# Altium integrated library IC.IntLib: 85 symbols
Pins are listed as number, name and electrical type; pins without a type are passive.

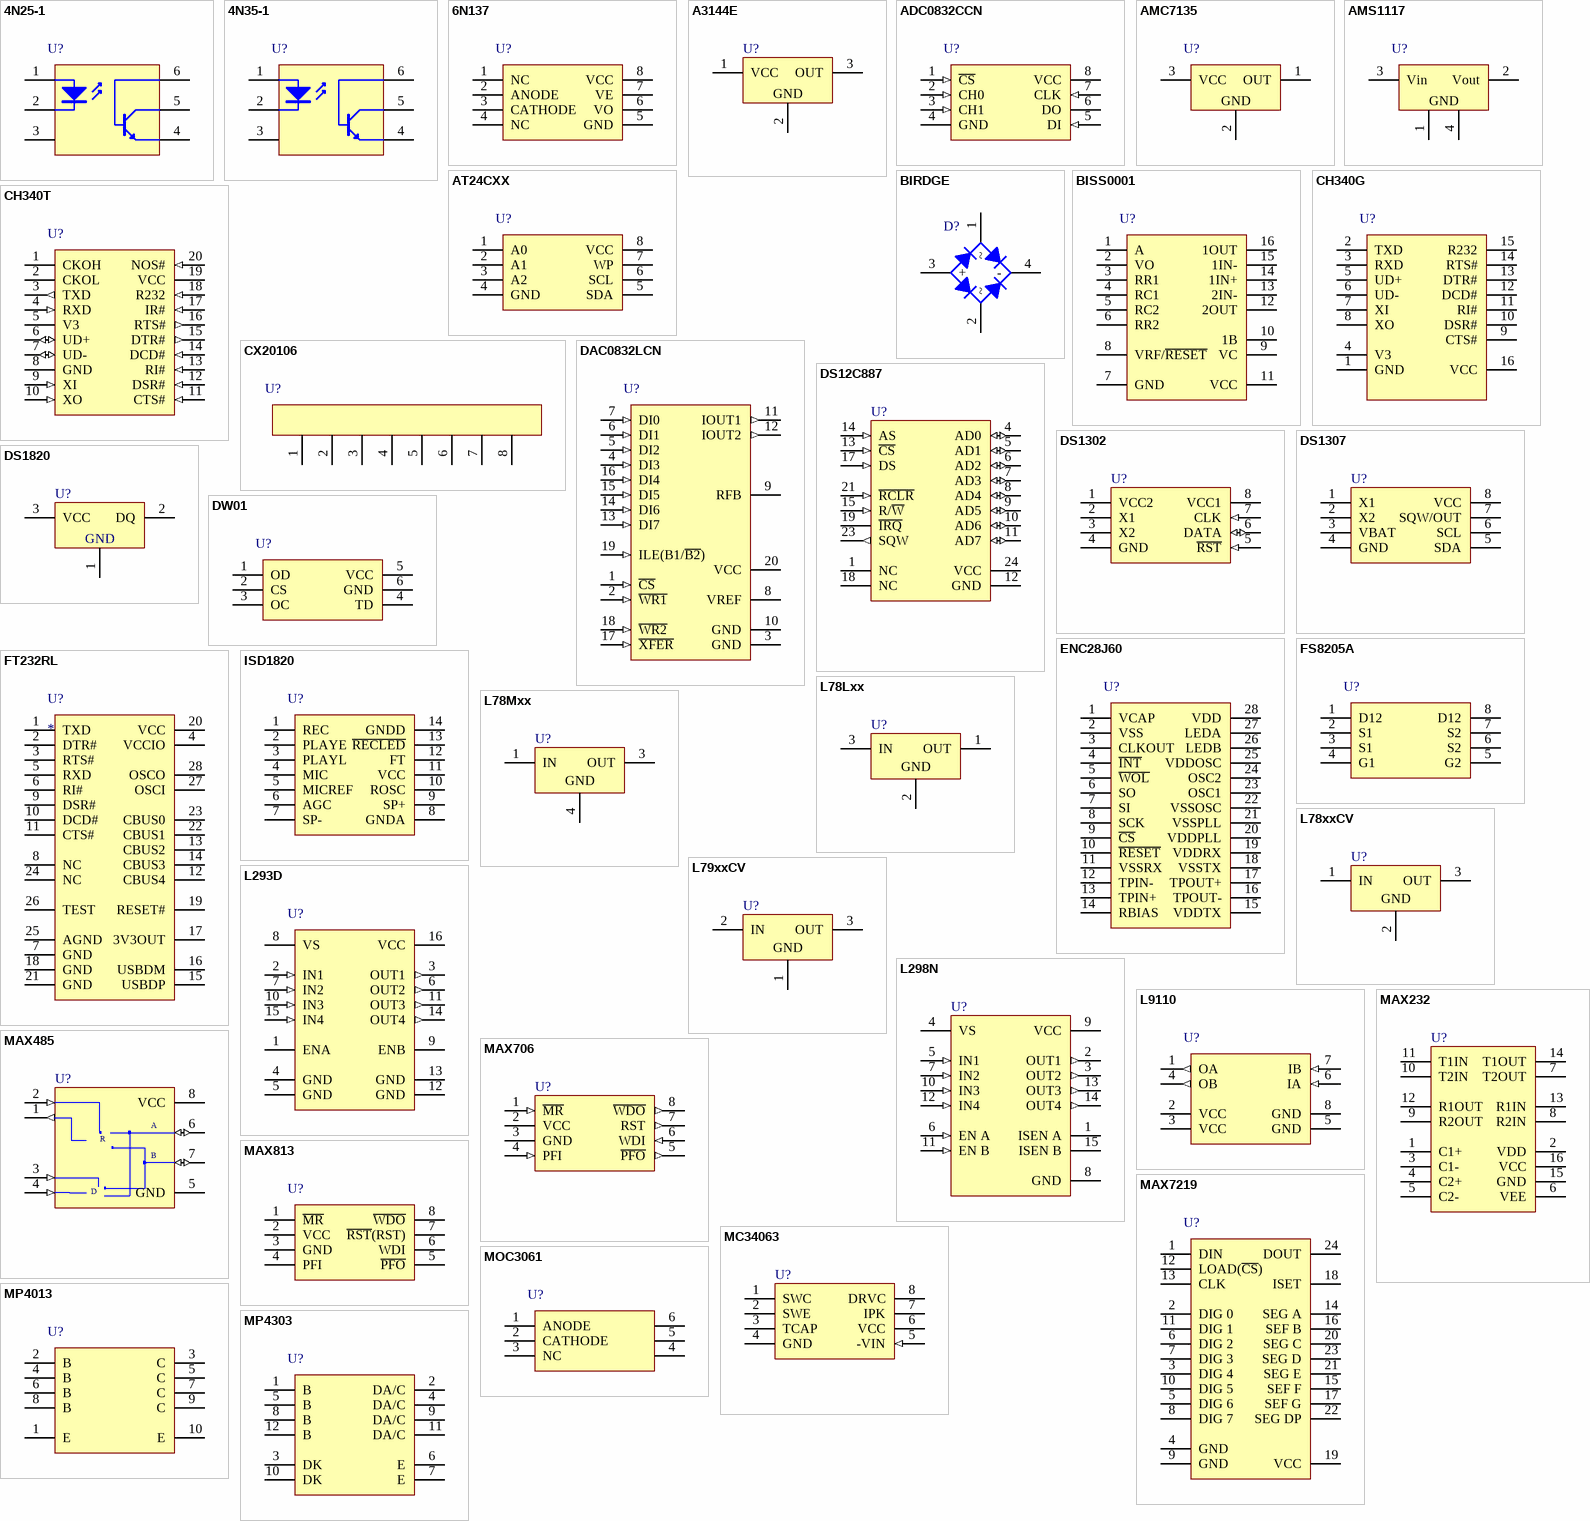
[diagram p0: symbols 4N25-1 to MP4303]

## 4N25-1
designator U?
6针光耦
footprint DIP6
pins: 1 A "Anode", 2 K "Cathode", 3 NC, 4 E "Emitter", 5 C "Collector", 6 B "Base"

## 4N35-1
designator U?
6针光耦
footprint DIP6
pins: 1 A "Anode", 2 K "Cathode", 3 NC, 4 E "Emitter", 5 C "Collector", 6 B "Base"

## 6N137
designator U?
8针光耦
footprint DIP8 (DIP; 8 Leads; Row Spacing 7.62 mm; Pitch 2.54 mm)
pins: 1 NC, 2 ANODE, 3 CATHODE, 4 NC, 5 GND (power), 6 VO, 7 VE, 8 VCC (power)

## A3144E
designator U?
霍尔传感器
footprint TO-92 (TO, Flat Index; 3 In-Line, Axial Leads; Body Dia. 4.5mm; Leads 0.51 x 0.48 mm (max))
footprint TO-92-W (TO, Flat Index; 3 In-Line, Axial Leads; Body Dia. 4.5mm; Leads 0.51 x 0.48 mm (max))
footprint H3 (Connector; Header; 3 Position)
pins: 1 VCC (power), 2 GND (power), 3 OUT

## ADC0832CCN
designator U?
8位串行输入/输出模数转换器; PartNumber: ADC0832CCN; Manufacturer: National Semiconductor; CompType: ADC IC; PackageTopMarking: NSUZXYTT*ADC*0832CCN; Published: 4-Dec-2008; DatasheetVersion: Sep-1992; PackageVersion: revG, May-2006; PackageReference: N08E; Publisher: Altium Limited; PackageDescription: MDIP, .365 x .250 x .130in, 8 Lead, .100in Pitch; RoHS: O; PinCount: 8; DigiKeyPartNumber: ADC0832CCN-ND; Code_JEDEC: MS-001-BA; ComponentLink1Description: ADC0832 Datasheet; ComponentLink1URL: http://www.national.com/ds/AD/ADC0832.pdf; ComponentLink2Description: ADC0832 Web Page; ComponentLink2URL: http://www.national.com/pf/AD/ADC0832.html; ComponentLink3Description: N08E Package Page; ComponentLink3URL: http://www.national.com/packaging/folders/n08e.html
footprint DIP8 (DIP; 8 Leads; Row Spacing 7.62 mm; Pitch 2.54 mm)
pins: 1 ~{CS} (in), 2 CH0 (in), 3 CH1 (in), 4 GND (power), 5 DI (in), 6 DO (hiz), 7 CLK (in), 8 VCC (power)

## AMC7135
designator U?
350毫安先进的电流稳压器
footprint SOT-89 (SOT89, 3-Leads, Body 4.5x2.4mm (max), Pitch 1.50mm, Lead Span 4.1mm, IPC Medium Density)
pins: 1 OUT, 2 GND (power), 3 VCC (power)

## AMS1117
designator U?
低压稳压器-1A
footprint SOT-223 (SOT-223/SC-73; 4 Leads; Body 6.7 x 7.3 mm, inc. leads (LxW max))
pins: 1 GND, 2 Vout, 3 Vin, 4 GND

## AT24CXX
designator U?
串行可擦写存储器
footprint DIP8 (DIP; 8 Leads; Row Spacing 7.62 mm; Pitch 2.54 mm)
footprint SOP8
pins: 1 A0, 2 A1, 3 A2, 4 GND (power), 5 SDA, 6 SCL, 7 WP, 8 VCC (power)

## BIRDGE
designator D?
全波二极管整流桥
footprint BIRDGE-DIP4
footprint BIRDGE-SOP4
footprint BIRDGE-2W10 (Bridge Rectifier; 4 Terminals; Body 9.4 x 9.4 mm (typ); Pitch 5.08 mm)
footprint BIRDGE-KBP307 (Bridge Rectifier; 4 Terminals; Body 9.4 x 9.4 mm (typ); Pitch 5.08 mm)
pins: 1 ~, 2 ~, 3 +, 4 -

## BISS0001
designator U?
高性能的传感（热释电红外）信号处理集成电路
footprint DIP16
pins: 1 A, 2 VO, 3 RR1, 4 RC1, 5 RC2, 6 RR2, 7 GND (power), 8 VRF/~{RESET}, 9 VC, 10 1B, 11 VCC (power), 12 2OUT, 13 2IN-, 14 1IN+, 15 1IN-, 16 1OUT

## CH340G
designator U?
USB 总线转接芯片
footprint SOP16
pins: 1 GND (power), 2 TXD, 3 RXD, 4 V3, 5 UD+, 6 UD-, 7 XI, 8 XO, 9 CTS#, 10 DSR#, 11 RI#, 12 DCD#, 13 DTR#, 14 RTS#, 15 R232, 16 VCC (power)

## CH340T
designator U?
USB 总线转接芯片
footprint SSOP20 (SSOP; 20 Leads; Body Width 5.3 mm; Pitch 0.65 mm)
pins: 1 CKOH, 2 CKOL, 3 TXD (out), 4 RXD (in), 5 V3 (power), 6 UD+ (io), 7 UD- (io), 8 GND (power), 9 XI (in), 10 XO (in), 11 CTS# (in), 12 DSR# (in), 13 RI# (in), 14 DCD# (in), 15 DTR# (out), 16 RTS# (out), 17 IR# (in), 18 R232 (in), 19 VCC (power), 20 NOS# (in)

## CX20106
designator U?
红外/超声波接收
footprint H8 (Connector; Header; 8 Position)
pins: 1, 2, 3, 4, 5, 6, 7, 8

## DAC0832LCN
designator U?
8位微处理器兼容双缓冲数模转换器; PartNumber: DAC0832LCN; Manufacturer: National Semiconductor; CompType: D/A Converter; PackageTopMarking: NSUZXYYTTE#*DAC0832LCN; Published: 4-Dec-2008; DatasheetVersion: Mar-2002; PackageVersion: revG, Nov-1984; PackageReference: N20A; Publisher: Altium Limited; PackageDescription: Molded Dip (N) 20 Lead; RoHS: O; PinCount: 20; DigiKeyPartNumber: DAC0832LCN-ND; Code_JEDEC: MS-001-AD; ComponentLink1Description: DAC0832 Datasheet; ComponentLink1URL: http://www.national.com/ds/DA/DAC0832.pdf; ComponentLink2Description: DAC0832 Web Page; ComponentLink2URL: http://www.national.com/pf/DA/DAC0832.html; ComponentLink3Description: N20A Package Page; ComponentLink3URL: http://www.national.com/packaging/folders/n20a.html
footprint DIP20 (DIP; 20 Leads; Row Spacing 7.62 mm; Pitch 2.54 mm)
pins: 1 ~{CS} (in), 2 ~{WR1} (in), 3 GND (power), 4 DI3 (in), 5 DI2 (in), 6 DI1 (in), 7 DI0 (in), 8 VREF (power), 9 RFB, 10 GND (power), 11 IOUT1 (out), 12 IOUT2 (out), 13 DI7 (in), 14 DI6 (in), 15 DI5 (in), 16 DI4 (in), 17 ~{XFER} (in), 18 ~{WR2} (in), 19 ILE(B1/~{B2}) (in), 20 VCC (power)

## DS12C887
designator U?
实时时钟; Note: Pin numbers 1, 2, 3, 16, 18, 20 and 22 are Not Connected (NC); Published: 13-Oct-2000; LatestRevisionDate: 17-Jul-2002; LatestRevisionNote: Re-released for DXP Platform.; DatasheetVersion: 8-Aug-1995; PackageReference: ENDIP24F; Publisher: Altium Limited; PackageDescription: DIP; 24 Rectangular pins (5 Absent); Row Space 15.24 mm; Pitch 2.54 mm; ComponentLink1Description: Manufacturer Link; ComponentLink1URL: http://www.maxim-ic.com/
footprint PDIP24 (DIP; 24 Leads; Row Spacing 15.24 mm; Pitch 2.54 mm)
pins: 1 NC, 4 AD0 (io), 5 AD1 (io), 6 AD2 (io), 7 AD3 (io), 8 AD4 (io), 9 AD5 (io), 10 AD6 (io), 11 AD7 (io), 12 GND (power), 13 ~{CS} (in), 14 AS (in), 15 R/~{W} (in), 17 DS (in), 18 NC, 19 ~{IRQ} (oc), 21 ~{RCLR} (in), 23 SQW (out), 24 VCC (power)

## DS1302
designator U?
涓流充电的时钟芯片; Published: 13-Oct-2000; LatestRevisionDate: 06-Jun-2005; LatestRevisionNote: Stylized 3D Model Added.; DatasheetVersion: 2-Jul-1999; PackageVersion: 1999; PackageReference: DIP8; Publisher: Altium Limited; PackageDescription: DIP; 8 Leads; Row Spacing 7.62 mm; Pitch 2.54 mm; ComponentLink1Description: Manufacturer Link; ComponentLink1URL: http://www.maxim-ic.com/; ComponentLink2Description: Datasheet; ComponentLink2URL: http://pdfserv.maxim-ic.com/en/ds/DS1302.pdf
footprint DIP8 (DIP; 8 Leads; Row Spacing 7.62 mm; Pitch 2.54 mm)
footprint SOP8
pins: 1 VCC2 (power), 2 X1, 3 X2, 4 GND (power), 5 ~{RST} (in), 6 DATA (io), 7 CLK (in), 8 VCC1 (power)

## DS1307
designator U?
I2C 总线接口时钟芯片
footprint DIP8 (DIP; 8 Leads; Row Spacing 7.62 mm; Pitch 2.54 mm)
footprint SOP8
pins: 1 X1, 2 X2, 3 VBAT, 4 GND (power), 5 SDA, 6 SCL, 7 SQW/OUT, 8 VCC (power)

## DS1820
designator U?
1-Wire 数字温度计; ComponentAvailability: Obsolete; Published: 13-Oct-2000; LatestRevisionDate: 17-Jul-2002; LatestRevisionNote: Re-released for DXP Platform.; DatasheetVersion: 5-Mar-1998; PackageVersion: 1999; PackageReference: PR35; Publisher: Altium Limited; PackageDescription: TO, Flat Index; 3 In-Line, Axial Leads; Body Dia. 4.6mm; Leads 0.56 x 0.51 mm (max); ComponentLink1Description: Manufacturer Link; ComponentLink1URL: http://www.maxim-ic.com/; ComponentLink2Description: Datasheet; ComponentLink2URL: http://pdfserv.maxim-ic.com/en/ds/DS1820-DS1820S.pdf; ComponentLink3Description: Discontinuation Notice; ComponentLink3URL: http://www.maxim-ic.com/qa/pdfs/non-obsolescence-letter.pdf
footprint TO-92 (TO, Flat Index; 3 In-Line, Axial Leads; Body Dia. 4.5mm; Leads 0.51 x 0.48 mm (max))
footprint TO-92-W (TO, Flat Index; 3 In-Line, Axial Leads; Body Dia. 4.5mm; Leads 0.51 x 0.48 mm (max))
footprint H3 (Connector; Header; 3 Position)
pins: 1 GND (power), 2 DQ, 3 VCC (power)

## DW01
designator U?
锂电保护IC
footprint SOT23-6 (SOT-23/SC-74A; 5 Leads; Body 3.1 x 3 mm, inc. leads (LxW max))
pins: 1 OD, 2 CS, 3 OC, 4 TD, 5 VCC (power), 6 GND (power)

## ENC28J60
designator U?
带SPI接口的独立以太网控制器
footprint SSOP28 (SSOP; 28 Leads; Body Width 5.3 mm; Pitch 0.65 mm)
footprint SOP28-W
pins: 1 VCAP, 2 VSS, 3 CLKOUT, 4 ~{INT}, 5 ~{WOL}, 6 SO, 7 SI, 8 SCK, 9 ~{CS}, 10 ~{RESET}, 11 VSSRX, 12 TPIN-, 13 TPIN+, 14 RBIAS, 15 VDDTX, 16 TPOUT-, 17 TPOUT+, 18 VSSTX, 19 VDDRX, 20 VDDPLL, 21 VSSPLL, 22 VSSOSC, 23 OSC1, 24 OSC2, 25 VDDOSC, 26 LEDB, 27 LEDA, 28 VDD

## FS8205A
designator U?
锂电保护
footprint TSSOP8
pins: 1 D12, 2 S1, 3 S1, 4 G1, 5 G2, 6 S2, 7 S2, 8 D12

## FT232RL
designator U?
USB转UART
footprint SSOP28 (SSOP; 28 Leads; Body Width 5.3 mm; Pitch 0.65 mm)
pins: 1 TXD, 2 DTR#, 3 RTS#, 4 VCCIO, 5 RXD, 6 RI#, 7 GND, 8 NC, 9 DSR#, 10 DCD#, 11 CTS#, 12 CBUS4, 13 CBUS2, 14 CBUS3, 15 USBDP, 16 USBDM, 17 3V3OUT, 18 GND, 19 RESET#, 20 VCC, 21 GND, 22 CBUS1, 23 CBUS0, 24 NC, 25 AGND, 26 TEST, 27 OSCI, 28 OSCO

## ISD1820
designator U?
8-20 秒单段语音录放电路
footprint DIP14
pins: 1 REC, 2 PLAYE, 3 PLAYL, 4 MIC, 5 MICREF, 6 AGC, 7 SP-, 8 GNDA (power), 9 SP+, 10 ROSC, 11 VCC (power), 12 FT, 13 ~{RECLED}, 14 GNDD (power)

## L78Lxx
designator U?
正电压稳压器; Published: 24-Aug-2001; LatestRevisionDate: 17-Jul-2002; LatestRevisionNote: Re-released for DXP Platform.; DatasheetVersion: Feb-1999; PackageReference: TO92; Publisher: Altium Limited; PackageDescription: TO, Flat Index; 3 In-Line, Axial Leads; Body Dia. 4.8mm; Leads 0.51 x 0.51 mm (max); ComponentLink1Description: Manufacturer Link; ComponentLink1URL: http://www.st.com/
footprint TO-92
footprint TO-92-W (TO, Flat Index; 3 In-Line, Axial Leads; Body Dia. 4.5mm; Leads 0.51 x 0.48 mm (max))
pins: 1 OUT, 2 GND (power), 3 IN

## L78Mxx
designator U?
正电压稳压器; Published: 24-Aug-2001; LatestRevisionDate: 06-Jun-2005; LatestRevisionNote: PCB pads lengthened.; DatasheetVersion: Apr-1994; PackageVersion: Jun-2004; PackageReference: TO-252; Publisher: Altium Limited; PackageDescription: D-PAK/TO-252-AA; 3 Leads (1 Cropped); Body 10.1 (inc. leads) x 6.6 mm (LxW max); ComponentLink1Description: Manufacturer Link; ComponentLink1URL: http://www.st.com/; ComponentLink2Description: Datasheet; ComponentLink2URL: http://www.st.com/stonline/products/literature/ds/2146/l78m05c.pdf
footprint TO-252 (D-PAK/TO-252-AA; 3 Leads (1 Cropped); Body 10.1 (inc. leads) x 6.6 mm (LxW max))
pins: 1 IN, 3 OUT, 4 GND (power)

## L78xxCV
designator U?
正电压稳压器; Note: Tab is connected to pin 3 (GND).; Published: 24-Aug-2001; LatestRevisionDate: 17-Jul-2002; LatestRevisionNote: Re-released for DXP Platform.; DatasheetVersion: Dec-1998; PackageVersion: Jun-1998; PackageReference: TO220ABN; Publisher: Altium Limited; PackageDescription: TO, Thru-Hole, Vertical, Heatsink Mounted; 3 In-Line Leads; Pitch 2.54 mm; Pin sequence 1, 3, 2; ComponentLink1Description: Manufacturer Link; ComponentLink1URL: http://www.st.com/
footprint TO-220 (TO, Thru-Hole, Vertical, Heatsink Mounted; 3 In-Line Leads; Pitch 2.54 mm)
pins: 1 IN, 2 GND (power), 3 OUT

## L79xxCV
designator U?
负电压稳压器; Note: Tab is connected to pin 3 (IN).; Published: 24-Aug-2001; LatestRevisionDate: 17-Jul-2002; LatestRevisionNote: Re-released for DXP Platform.; DatasheetVersion: Apr-1997; PackageReference: TO220V; Publisher: Altium Limited; PackageDescription: TO, Thru-Hole, Vertical, Heatsink Mounted; 3 In-Line Leads; Pitch 2.54 mm; Pin sequence 1, 3, 2; ComponentLink1Description: Manufacturer Link; ComponentLink1URL: http://www.st.com/; ComponentLink2Description: Datasheet; ComponentLink2URL: http://www.st.com/stonline/products/literature/ds/2149/l7905c.pdf
footprint TO-220 (TO, Thru-Hole, Vertical, Heatsink Mounted; 3 In-Line Leads; Pitch 2.54 mm)
pins: 1 GND (power), 2 IN, 3 OUT

## L293D
designator U?
推拉四通道驱动器，带有二极管
footprint DIP16
pins: 1 ENA, 2 IN1 (in), 3 OUT1 (out), 4 GND (power), 5 GND (power), 6 OUT2 (out), 7 IN2 (in), 8 VS (power), 9 ENB, 10 IN3 (in), 11 OUT3 (out), 12 GND (power), 13 GND (power), 14 OUT4 (out), 15 IN4 (in), 16 VCC (power)

## L298N
designator U?
双全桥驱动器; Published: 8-Jun-2000; LatestRevisionDate: 14-May-2007; LatestRevisionNote: Mapped to vertical PCB.; DatasheetVersion: Jul-1999; PackageReference: Multiwatt15V; Publisher: Altium Limited; PackageDescription: TO, Thru-Hole, Vertical, Heatsink Mounted; 15 Bent Staggered Leads; Pitch 1.27 mm; ComponentLink1Description: Manufacturer Link; ComponentLink1URL: http://www.st.com/; ComponentLink2Description: Datasheet; ComponentLink2URL: http://www.st.com/stonline/products/literature/ds/1773/l298.pdf
footprint KV015 (TO, Thru-Hole, Vertical, Heatsink Mounted; 15 Bent Staggered Leads; Pitch 1.27 mm)
pins: 1 ISEN A, 2 OUT1 (out), 3 OUT2 (out), 4 VS (power), 5 IN1 (in), 6 EN A (in), 7 IN2 (in), 8 GND (power), 9 VCC (power), 10 IN3 (in), 11 EN B (in), 12 IN4 (in), 13 OUT3 (out), 14 OUT4 (out), 15 ISEN B

## L9110
designator U?
马达控制驱动芯片
footprint DIP8 (DIP; 8 Leads; Row Spacing 7.62 mm; Pitch 2.54 mm)
pins: 1 OA (out), 2 VCC (power), 3 VCC (power), 4 OB (out), 5 GND (power), 6 IA (in), 7 IB (in), 8 GND (power)

## MAX232
designator U?
+5供电的RS-232驱动器/接收器; Published: 16-Jan-2001; LatestRevisionDate: 06-Jun-2005; LatestRevisionNote: Stylized 3D Model Added.; DatasheetVersion: Apr-1992; PackageVersion: 1997; PackageReference: PE16A; Publisher: Altium Limited; PackageDescription: DIP; 16 Leads; Row Spacing 7.62 mm; Pitch 2.54 mm; Code_JEDEC: MS-001-BB; ComponentLink1Description: Manufacturer Link; ComponentLink1URL: http://www.maxim-ic.com/; ComponentLink2Description: Datasheet; ComponentLink2URL: http://pdfserv.maxim-ic.com/en/ds/MAX220-MAX249.pdf
footprint DIP16
footprint SOP16
pins: 1 C1+, 2 VDD (power), 3 C1-, 4 C2+, 5 C2-, 6 VEE (power), 7 T2OUT, 8 R2IN, 9 R2OUT, 10 T2IN, 11 T1IN, 12 R1OUT, 13 R1IN, 14 T1OUT, 15 GND (power), 16 VCC (power)

## MAX485
designator U?
低功耗RS-485/RS-422收发器; Published: 16-Jan-2001; LatestRevisionDate: 06-Jun-2005; LatestRevisionNote: Stylized 3D Model Added.; DatasheetVersion: Feb-1996; PackageVersion: RevB, 21-0043; PackageReference: PA8; Publisher: Altium Limited; PackageDescription: DIP; 8 Leads; Row Spacing 7.62 mm; Pitch 2.54 mm; Code_JEDEC: MS-001-AB; ComponentLink1Description: Manufacturer Link; ComponentLink1URL: http://www.maxim-ic.com/; ComponentLink2Description: Datasheet; ComponentLink2URL: http://pdfserv.maxim-ic.com/en/ds/MAX1487-MAX491.pdf
footprint DIP8 (DIP; 8 Leads; Row Spacing 7.62 mm; Pitch 2.54 mm)
footprint SOP8
pins: 1 RO (out), 2 ~{RE} (in), 3 DE (in), 4 DI (in), 5 GND (power), 6 A (io), 7 B (io), 8 VCC (power)
text: R; D

## MAX706
designator U?
低成本 +3V 电压监控电路; Published: 16-Jan-2001; LatestRevisionDate: 06-Jun-2005; LatestRevisionNote: Stylized 3D Model Added.; DatasheetVersion: Sep-1995; PackageVersion: RevB, 21-0043; PackageReference: PA8; Publisher: Altium Limited; PackageDescription: DIP; 8 Leads; Row Spacing 7.62 mm; Pitch 2.54 mm; Code_JEDEC: MS-001-AB; ComponentLink1Description: Manufacturer Link; ComponentLink1URL: http://www.maxim-ic.com/; ComponentLink2Description: Datasheet; ComponentLink2URL: http://pdfserv.maxim-ic.com/en/ds/MAX706P-MAX708T.pdf
footprint DIP8 (DIP; 8 Leads; Row Spacing 7.62 mm; Pitch 2.54 mm)
pins: 1 ~{MR} (in), 2 VCC (power), 3 GND (power), 4 PFI (in), 5 ~{PFO} (out), 6 WDI (in), 7 RST (out), 8 ~{WDO} (out)

## MAX813
designator U?
看门狗
footprint DIP8 (DIP; 8 Leads; Row Spacing 7.62 mm; Pitch 2.54 mm)
pins: 1 ~{MR}, 2 VCC (power), 3 GND (power), 4 PFI, 5 ~{PFO}, 6 WDI, 7 ~{RST}(RST), 8 ~{WDO}

## MAX7219
designator U?
串行接口、8位、LED显示驱动器
footprint DIP24
pins: 1 DIN, 2 DIG 0, 3 DIG 4, 4 GND (power), 5 DIG 6, 6 DIG 2, 7 DIG 3, 8 DIG 7, 9 GND (power), 10 DIG 5, 11 DIG 1, 12 LOAD(~{CS}), 13 CLK, 14 SEG A, 15 SEF F, 16 SEF B, 17 SEF G, 18 ISET, 19 VCC (power), 20 SEG C, 21 SEG E, 22 SEG DP, 23 SEG D, 24 DOUT

## MC34063
designator U?
DO-DO 转换控制电路; Published: 17-Jul-2002; LatestRevisionDate: 06-Jun-2005; LatestRevisionNote: Stylized 3D Model Added.; DatasheetVersion: 1988; PackageReference: 626-05; Publisher: Altium Limited; PackageDescription: DIP; 8 Leads; Row Spacing 7.62 mm; Pitch 2.54 mm; ComponentLink1Description: Manufacturer Link; ComponentLink1URL: http://www.onsemi.com/site/products/taxonomy/0,4438,503,00.html; ComponentLink2Description: Datasheet; ComponentLink2URL: http://www.onsemi.com/pub/Collateral/MC34063A-D.PDF
footprint DIP8 (DIP; 8 Leads; Row Spacing 7.62 mm; Pitch 2.54 mm)
pins: 1 SWC (oc), 2 SWE (oe), 3 TCAP, 4 GND (power), 5 -VIN (in), 6 VCC (power), 7 IPK, 8 DRVC (oc)

## MOC3061
designator U?
6针光耦
footprint DIP8 (DIP; 8 Leads; Row Spacing 7.62 mm; Pitch 2.54 mm)
pins: 1 ANODE, 2 CATHODE, 3 NC, 4, 5, 6

## MP4013
designator U?
脉冲马达驱动，感性负载开关
footprint MP4013 (Connector; Header; 10 Position)
pins: 1 E, 2 B, 3 C, 4 B, 5 C, 6 B, 7 C, 8 B, 9 C, 10 E

## MP4303
designator U?
脉冲马达驱动，感性负载开关
footprint MP4303 (Connector; Header; 12 Position)
pins: 1 B, 2 DA/C, 3 DK, 4 DA/C, 5 B, 6 E, 7 E, 8 B, 9 DA/C, 10 DK, 11 DA/C, 12 B

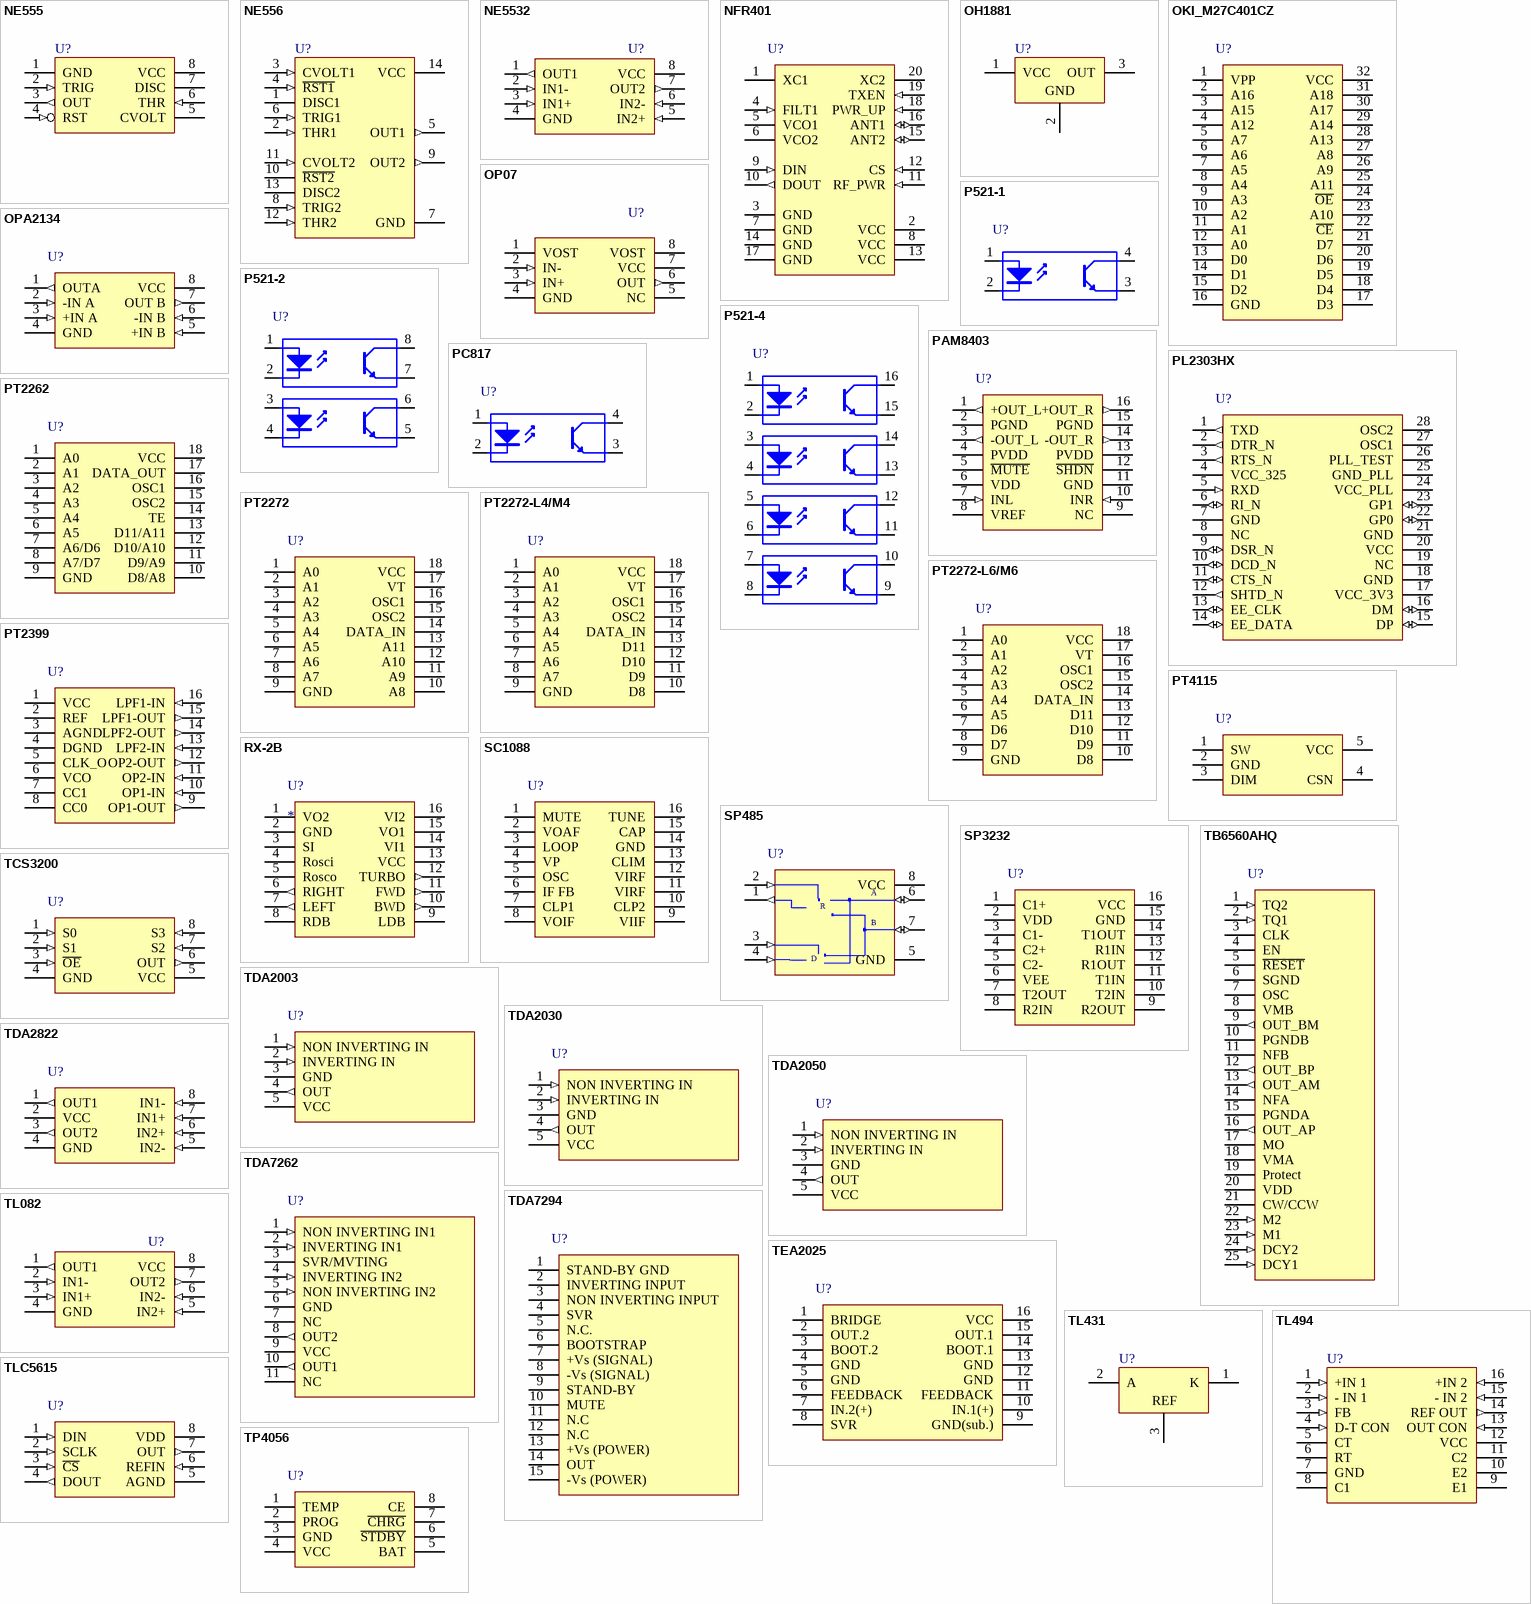
[diagram p1: symbols NE555 to TP4056]

## NE555
designator U?
通用单定时器; Published: 24-Aug-2001; LatestRevisionDate: 06-Jun-2005; LatestRevisionNote: Stylized 3D Model Added.; DatasheetVersion: Jul-1998; PackageReference: DIP8; Publisher: Altium Limited; PackageDescription: DIP; 8 Leads; Row Spacing 7.62 mm; Pitch 2.54 mm; Code_JEDEC: MO-001-AN; ComponentLink1Description: Manufacturer Link; ComponentLink1URL: http://www.st.com/; ComponentLink2Description: Datasheet; ComponentLink2URL: http://www.st.com/stonline/products/literature/ds/2182/ne555.pdf
footprint DIP8 (DIP; 8 Leads; Row Spacing 7.62 mm; Pitch 2.54 mm)
footprint SOP8
pins: 1 GND (power), 2 TRIG (in), 3 OUT (out), 4 RST (in), 5 CVOLT, 6 THR (in), 7 DISC (oc), 8 VCC (power)

## NE556
designator U?
通用双定时器; Published: 24-Aug-2001; LatestRevisionDate: 06-Jun-2005; LatestRevisionNote: Stylized 3D Model Added.; DatasheetVersion: Jul-1998; PackageVersion: Jan-1997; PackageReference: DIP14; Publisher: Altium Limited; PackageDescription: DIP; 14 Leads; Row Spacing 7.62 mm; Pitch 2.54 mm; ComponentLink1Description: Manufacturer Link; ComponentLink1URL: http://www.st.com/; ComponentLink2Description: Datasheet; ComponentLink2URL: http://www.st.com/stonline/products/literature/ds/2183/ne556.pdf
footprint DIP14
pins: 1 DISC1 (oc), 2 THR1 (in), 3 CVOLT1 (in), 4 ~{RST1} (in), 5 OUT1 (out), 6 TRIG1 (in), 7 GND (power), 8 TRIG2 (in), 9 OUT2 (out), 10 ~{RST2}, 11 CVOLT2 (in), 12 THR2 (in), 13 DISC2 (oc), 14 VCC (power)

## NE5532
designator U?
双低噪声运算放大器; Published: 15-Apr-2002; LatestRevisionDate: 04-Mar-2005; LatestRevisionNote: Stylized 3D Model Added.; DatasheetVersion: May-1988; PackageVersion: Jun-1999; PackageReference: P008; Publisher: Altium Limited; PackageDescription: DIP; 8 Leads; Row Spacing 7.62 mm; Pitch 2.54 mm; Code_JEDEC: MO-001-AN; ComponentLink1Description: Manufacturer Link; ComponentLink1URL: http://www.ti.com/; ComponentLink2Description: Datasheet; ComponentLink2URL: http://www-s.ti.com/sc/ds/ne5532a.pdf
footprint DIP8 (DIP; 8 Leads; Row Spacing 7.62 mm; Pitch 2.54 mm)
pins: 1 OUT1 (out), 2 IN1- (in), 3 IN1+ (in), 4 GND (power), 5 IN2+ (in), 6 IN2- (in), 7 OUT2 (out), 8 VCC (power)

## NFR401
designator U?
433MHz单片UHF无线接收
footprint SSOP20 (SSOP; 20 Leads; Body Width 5.3 mm; Pitch 0.65 mm)
pins: 1 XC1, 2 VCC (power), 3 GND (power), 4 FILT1 (in), 5 VCO1, 6 VCO2, 7 GND (power), 8 VCC (power), 9 DIN (in), 10 DOUT (out), 11 RF_PWR (in), 12 CS (in), 13 VCC (power), 14 GND (power), 15 ANT2 (io), 16 ANT1 (io), 17 GND (power), 18 PWR_UP (in), 19 TXEN (in), 20 XC2

## OH1881
designator U?
霍尔传感器
footprint TO-92 (TO, Flat Index; 3 In-Line, Axial Leads; Body Dia. 4.5mm; Leads 0.51 x 0.48 mm (max))
footprint TO-92-W (TO, Flat Index; 3 In-Line, Axial Leads; Body Dia. 4.5mm; Leads 0.51 x 0.48 mm (max))
footprint H3 (Connector; Header; 3 Position)
pins: 1 VCC (power), 2 GND (power), 3 OUT

## OKI_M27C401CZ
designator U?
512KB可编程只读存储器
footprint PDIP32 (DIP, Plastic; 32 Leads; Row Spacing 15.24 mm; Pitch 2.54 mm)
pins: 1 VPP, 2 A16, 3 A15, 4 A12, 5 A7, 6 A6, 7 A5, 8 A4, 9 A3, 10 A2, 11 A1, 12 A0, 13 D0, 14 D1, 15 D2, 16 GND (power), 17 D3, 18 D4, 19 D5, 20 D6, 21 D7, 22 ~{CE}, 23 A10, 24 ~{OE}, 25 A11, 26 A9, 27 A8, 28 A13, 29 A14, 30 A17, 31 A18, 32 VCC (power)

## OP07
designator U?
超低补偿电压运算放大器; Note: Pin 5 is not connected.; Published: 8-Jun-2000; LatestRevisionDate: 04-Mar-2005; LatestRevisionNote: Stylized 3D Model Added.; DatasheetVersion: 1992; PackageReference: N-8_A; Publisher: Altium Limited; PackageDescription: DIP; 8 Leads; Row Spacing 7.62 mm; Pitch 2.54 mm; Code_JEDEC: MO-001-AN; ComponentLink1Description: Manufacturer Link; ComponentLink1URL: http://www.analog.com/en/prod/0,,759_786_OP07%2C00.html; ComponentLink2Description: Datasheet; ComponentLink2URL: http://www.analog.com/UploadedFiles/Data_Sheets/39161232478959OP07_c.pdf
footprint DIP8 (DIP; 8 Leads; Row Spacing 7.62 mm; Pitch 2.54 mm)
pins: 1 VOST, 2 IN- (in), 3 IN+ (in), 4 GND (power), 5 NC, 6 OUT (out), 7 VCC (power), 8 VOST

## OPA2134
designator U?
高性能音频运算放大器
footprint DIP8 (DIP; 8 Leads; Row Spacing 7.62 mm; Pitch 2.54 mm)
pins: 1 OUTA (out), 2 -IN A (in), 3 +IN A (in), 4 GND (power), 5 +IN B (in), 6 -IN B (in), 7 OUT B (out), 8 VCC (power)

## P521-1
designator U?
4针光耦
footprint DIP4
pins: 1 A "Anode", 2 K "Cathode", 3 E "Emitter", 4 C "Collector"

## P521-2
designator U?
8针光耦
footprint DIP8 (DIP; 8 Leads; Row Spacing 7.62 mm; Pitch 2.54 mm)
pins: 1 A "Anode", 2 K "Cathode", 3 A "Anode", 4 K "Cathode", 5 E "Emitter", 6 C "Collector", 7 E "Emitter", 8 C "Collector"

## P521-4
designator U?
16针光耦
footprint DIP16
pins: 1 A "Anode", 2 K "Cathode", 3 A "Anode", 4 K "Cathode", 5 A "Anode", 6 K "Cathode", 7 A "Anode", 8 K "Cathode", 9 E "Emitter", 10 C "Collector", 11 E "Emitter", 12 C "Collector", 13 E "Emitter", 14 C "Collector", 15 E "Emitter", 16 C "Collector"

## PAM8403
designator U?
3W*2无滤波立体声D级音频放大器
footprint SOP16
pins: 1 +OUT_L (out), 2 PGND (power), 3 -OUT_L (out), 4 PVDD (power), 5 ~{MUTE}, 6 VDD (power), 7 INL (in), 8 VREF, 9 NC, 10 INR (in), 11 GND (power), 12 ~{SHDN}, 13 PVDD (power), 14 -OUT_R (out), 15 PGND (power), 16 +OUT_R (out)

## PC817
designator U?
4针光耦
footprint DIP4
footprint PC817
pins: 1 A "Anode", 2 K "Cathode", 3 E "Emitter", 4 C "Collector"

## PL2303HX
designator U?
USB - 串行控制器
footprint SSOP28 (SSOP; 28 Leads; Body Width 5.3 mm; Pitch 0.65 mm)
pins: 1 TXD (out), 2 DTR_N (out), 3 RTS_N (out), 4 VCC_325 (power), 5 RXD (in), 6 RI_N (io), 7 GND (power), 8 NC, 9 DSR_N (io), 10 DCD_N (io), 11 CTS_N (io), 12 SHTD_N (out), 13 EE_CLK (io), 14 EE_DATA (io), 15 DP (io), 16 DM (io), 17 VCC_3V3 (power), 18 GND (power), 19 NC, 20 VCC (power), 21 GND (power), 22 GP0 (io), 23 GP1 (io), 24 VCC_PLL, 25 GND_PLL, 26 PLL_TEST, 27 OSC1, 28 OSC2

## PT2262
designator U?
CMOS低功耗通用编码器
footprint DIP18
pins: 1 A0, 2 A1, 3 A2, 4 A3, 5 A4, 6 A5, 7 A6/D6, 8 A7/D7, 9 GND (power), 10 D8/A8, 11 D9/A9, 12 D10/A10, 13 D11/A11, 14 TE, 15 OSC2, 16 OSC1, 17 DATA_OUT, 18 VCC (power)

## PT2272
designator U?
CMOS低功耗通用解码器
footprint DIP18
pins: 1 A0, 2 A1, 3 A2, 4 A3, 5 A4, 6 A5, 7 A6, 8 A7, 9 GND (power), 10 A8, 11 A9, 12 A10, 13 A11, 14 DATA_IN, 15 OSC2, 16 OSC1, 17 VT, 18 VCC (power)

## PT2272-L4/M4
designator U?
CMOS低功耗通用解码器
footprint DIP18
pins: 1 A0, 2 A1, 3 A2, 4 A3, 5 A4, 6 A5, 7 A6, 8 A7, 9 GND (power), 10 D8, 11 D9, 12 D10, 13 D11, 14 DATA_IN, 15 OSC2, 16 OSC1, 17 VT, 18 VCC (power)

## PT2272-L6/M6
designator U?
CMOS低功耗通用解码器
footprint DIP18
pins: 1 A0, 2 A1, 3 A2, 4 A3, 5 A4, 6 A5, 7 D6, 8 D7, 9 GND (power), 10 D8, 11 D9, 12 D10, 13 D11, 14 DATA_IN, 15 OSC2, 16 OSC1, 17 VT, 18 VCC (power)

## PT2399
designator U?
音频数字混响电路
footprint DIP16
pins: 1 VCC (power), 2 REF, 3 AGND (power), 4 DGND (power), 5 CLK_O, 6 VCO, 7 CC1, 8 CC0, 9 OP1-OUT (out), 10 OP1-IN (in), 11 OP2-IN (in), 12 OP2-OUT (out), 13 LPF2-IN (in), 14 LPF2-OUT (out), 15 LPF1-OUT (out), 16 LPF1-IN (in)

## PT4115
designator U?
15W DC-DC转换
footprint SOP89-5 (SOT23, 5-Leads, Body 4.6x4.3mm (max), Pitch 1.50mm, IPC Medium Density)
pins: 1 SW, 2 GND (power), 3 DIM, 4 CSN, 5 VCC (power)

## RX-2B
designator U?
遥控玩具接收(对应TX-2B)
footprint DIP16
pins: 1 VO2, 2 GND (power), 3 SI, 4 Rosci, 5 Rosco, 6 RIGHT (out), 7 LEFT (out), 8 RDB, 9 LDB, 10 BWD (out), 11 FWD (out), 12 TURBO (out), 13 VCC (power), 14 VI1, 15 VO1, 16 VI2

## SC1088
designator U?
无线电收音机芯片
footprint SOP16
pins: 1 MUTE, 2 VOAF, 3 LOOP, 4 VP, 5 OSC, 6 IF FB, 7 CLP1, 8 VOIF, 9 VIIF, 10 CLP2, 11 VIRF, 12 VIRF, 13 CLIM, 14 GND (power), 15 CAP, 16 TUNE

## SP485
designator U?
低功耗半双工RS - 485收发器
footprint SOP8
pins: 1 RO (out), 2 ~{RE} (in), 3 DE (in), 4 DI (in), 5 GND (power), 6 A (io), 7 B (io), 8 VCC (power)
text: R; D

## SP3232
designator U?
5V的高速RS - 232收发器与0.1uF电容
footprint SOP16
pins: 1 C1+, 2 VDD (power), 3 C1-, 4 C2+, 5 C2-, 6 VEE (power), 7 T2OUT, 8 R2IN, 9 R2OUT, 10 T2IN, 11 T1IN, 12 R1OUT, 13 R1IN, 14 T1OUT, 15 GND (power), 16 VCC (power)

## TB6560AHQ
designator U?
PWM波型双极步进电机驱动
footprint ZIP25 (TO, Thru-Hole, Vertical, Heatsink Mounted; 15 Bent Staggered Leads; Pitch 1.27 mm)
pins: 1 TQ2 (in), 2 TQ1 (in), 3 CLK, 4 EN, 5 ~{RESET}, 6 SGND (power), 7 OSC, 8 VMB, 9 OUT_BM (out), 10 PGNDB (power), 11 NFB, 12 OUT_BP (out), 13 OUT_AM (out), 14 NFA, 15 PGNDA (power), 16 OUT_AP (out), 17 MO, 18 VMA, 19 Protect, 20 VDD (power), 21 CW/CCW, 22 M2 (in), 23 M1 (in), 24 DCY2 (in), 25 DCY1 (in)

## TCS3200
designator U?
颜色传感器
footprint DIP8 (DIP; 8 Leads; Row Spacing 7.62 mm; Pitch 2.54 mm)
pins: 1 S0 (in), 2 S1 (in), 3 ~{OE} (in), 4 GND (power), 5 VCC (power), 6 OUT (out), 7 S2 (in), 8 S3 (in)

## TDA2003
designator U?
10W的汽车无线电音频放大器
footprint TO-5B (TO, Thru-Hole, Vertical, Heatsink Mounted; 5 Bent Staggered Leads; Pitch 1.7 mm)
pins: 1 NON INVERTING IN (in), 2 INVERTING IN (in), 3 GND (power), 4 OUT (out), 5 VCC (power)

## TDA2030
designator U?
14W Hi-Fi 音频放大
footprint TO-5B (TO, Thru-Hole, Vertical, Heatsink Mounted; 5 Bent Staggered Leads; Pitch 1.7 mm)
pins: 1 NON INVERTING IN (in), 2 INVERTING IN (in), 3 GND (power), 4 OUT (out), 5 VCC (power)

## TDA2050
designator U?
32W高保真音频放大器
footprint TO-5B (TO, Thru-Hole, Vertical, Heatsink Mounted; 5 Bent Staggered Leads; Pitch 1.7 mm)
pins: 1 NON INVERTING IN (in), 2 INVERTING IN (in), 3 GND (power), 4 OUT (out), 5 VCC (power)

## TDA2822
designator U?
双低电压功率放大器
footprint DIP8 (DIP; 8 Leads; Row Spacing 7.62 mm; Pitch 2.54 mm)
pins: 1 OUT1 (out), 2 VCC (power), 3 OUT2 (out), 4 GND (power), 5 IN2- (in), 6 IN2+ (in), 7 IN1+ (in), 8 IN1- (in)

## TDA7262
designator U?
20+20瓦立体声放大器
footprint MUL11
pins: 1 NON INVERTING IN1 (in), 2 INVERTING IN1 (in), 3 SVR/MVTING, 4 INVERTING IN2 (in), 5 NON INVERTING IN2 (in), 6 GND (power), 7 NC, 8 OUT2 (out), 9 VCC (power), 10 OUT1 (out), 11 NC

## TDA7294
designator U?
大功率优化音频放大器
footprint KV015 (TO, Thru-Hole, Vertical, Heatsink Mounted; 15 Bent Staggered Leads; Pitch 1.27 mm)
pins: 1 STAND-BY GND, 2 INVERTING INPUT, 3 NON INVERTING INPUT, 4 SVR, 5 N.C., 6 BOOTSTRAP, 7 +Vs (SIGNAL), 8 -Vs (SIGNAL), 9 STAND-BY, 10 MUTE, 11 N.C, 12 N.C, 13 +Vs (POWER), 14 OUT, 15 -Vs (POWER)

## TEA2025
designator U?
立体声音频放大器
footprint DIP16
pins: 1 BRIDGE, 2 OUT.2, 3 BOOT.2, 4 GND (power), 5 GND (power), 6 FEEDBACK, 7 IN.2(+), 8 SVR, 9 GND(sub.) (power), 10 IN.1(+), 11 FEEDBACK, 12 GND (power), 13 GND (power), 14 BOOT.1, 15 OUT.1, 16 VCC (power)

## TL082
designator U?
JFET 输入运算放大器; Published: 17-Jul-2002; LatestRevisionDate: 06-Jun-2005; LatestRevisionNote: Stylized 3D Model Added.; DatasheetVersion: 1988; PackageReference: 626-05; Publisher: Altium Limited; PackageDescription: DIP; 8 Leads; Row Spacing 7.62 mm; Pitch 2.54 mm; ComponentLink1Description: Manufacturer Link; ComponentLink1URL: http://www.onsemi.com/site/products/parametrics/0,4446,251,00.html
footprint DIP8 (DIP; 8 Leads; Row Spacing 7.62 mm; Pitch 2.54 mm)
pins: 1 OUT1 (out), 2 IN1- (in), 3 IN1+ (in), 4 GND (power), 5 IN2+ (in), 6 IN2- (in), 7 OUT2 (out), 8 VCC (power)

## TL431
designator U?
可编程电压参考; Published: 24-Aug-2001; LatestRevisionDate: 17-Jul-2002; LatestRevisionNote: Re-released for DXP Platform.; DatasheetVersion: Nov-1998; PackageReference: TO92; Publisher: Altium Limited; PackageDescription: TO, Flat Index; 3 In-Line, Axial Leads; Body Dia. 4.8mm; Leads 0.51 x 0.51 mm (max); ComponentLink1Description: Manufacturer Link; ComponentLink1URL: http://www.st.com/; ComponentLink2Description: Datasheet; ComponentLink2URL: http://www.st.com/stonline/products/literature/ds/4467/tl431.pdf
footprint TO-92
footprint TO-92-W (TO, Flat Index; 3 In-Line, Axial Leads; Body Dia. 4.5mm; Leads 0.51 x 0.48 mm (max))
pins: 1 K, 2 A, 3 REF

## TL494
designator U?
脉宽调制控制电路; Published: 15-Apr-2002; LatestRevisionDate: 06-Jun-2005; LatestRevisionNote: Stylized 3D Model Added.; DatasheetVersion: Oct-1988; PackageVersion: Jun-1999; PackageReference: J016; Publisher: Altium Limited; PackageDescription: DIP; 16 Leads; Row Spacing 7.62 mm; Pitch 2.54 mm; ComponentLink1Description: Manufacturer Link; ComponentLink1URL: http://www.ti.com/
footprint DIP16
pins: 1 +IN 1 (in), 2 - IN 1 (in), 3 FB (in), 4 D-T CON (in), 5 CT, 6 RT, 7 GND (power), 8 C1, 9 E1, 10 E2, 11 C2, 12 VCC (power), 13 OUT CON (in), 14 REF OUT (out), 15 - IN 2 (in), 16 +IN 2 (in)

## TLC5615
designator U?
10位数模转换器
footprint DIP8 (DIP; 8 Leads; Row Spacing 7.62 mm; Pitch 2.54 mm)
pins: 1 DIN (in), 2 SCLK (in), 3 ~{CS} (in), 4 DOUT (out), 5 AGND (power), 6 REFIN (in), 7 OUT (out), 8 VDD (power)

## TP4056
designator U?
1A线性锂离子电池充电器芯片
footprint SOP8
pins: 1 TEMP, 2 PROG, 3 GND (power), 4 VCC (power), 5 BAT, 6 ~{STDBY}, 7 ~{CHRG}, 8 CE

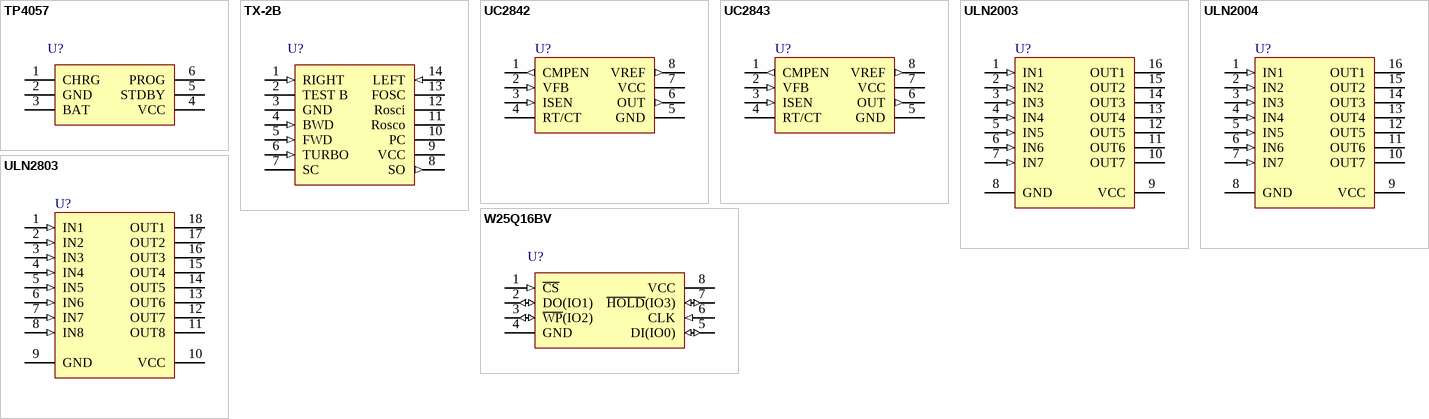
[diagram p2: symbols TP4057 to W25Q16BV]

## TP4057
designator U?
锂电池充电IC 500mA电池反接保护
footprint SOT23-6 (SOT-23/SC-74A; 5 Leads; Body 3.1 x 3 mm, inc. leads (LxW max))
pins: 1 CHRG, 2 GND (power), 3 BAT, 4 VCC (power), 5 STDBY, 6 PROG

## TX-2B
designator U?
遥控玩具发射(对应RX-2B)
footprint DIP14
pins: 1 RIGHT (in), 2 TEST B, 3 GND (power), 4 BWD (in), 5 FWD (in), 6 TURBO (in), 7 SC, 8 SO (out), 9 VCC (power), 10 PC, 11 Rosco, 12 Rosci, 13 FOSC, 14 LEFT (in)

## UC2842
designator U?
高性能电流模式控制器; Published: 17-Jul-2002; LatestRevisionDate: 06-Jun-2005; LatestRevisionNote: Stylized 3D Model Added.; DatasheetVersion: 1988; PackageReference: 626-05; Publisher: Altium Limited; PackageDescription: DIP; 8 Leads; Row Spacing 7.62 mm; Pitch 2.54 mm; ComponentLink1Description: Manufacturer Link; ComponentLink1URL: http://www.onsemi.com/site/products/taxonomy/0,4438,503,00.html; ComponentLink2Description: Datasheet; ComponentLink2URL: http://www.onsemi.com/pub/Collateral/UC3842A-D.PDF
footprint DIP8 (DIP; 8 Leads; Row Spacing 7.62 mm; Pitch 2.54 mm)
pins: 1 CMPEN (out), 2 VFB (in), 3 ISEN (in), 4 RT/CT, 5 GND (power), 6 OUT (out), 7 VCC (power), 8 VREF (out)

## UC2843
designator U?
高性能电流模式控制器; Published: 17-Jul-2002; LatestRevisionDate: 06-Jun-2005; LatestRevisionNote: Stylized 3D Model Added.; DatasheetVersion: 1988; PackageReference: 626-05; Publisher: Altium Limited; PackageDescription: DIP; 8 Leads; Row Spacing 7.62 mm; Pitch 2.54 mm; ComponentLink1Description: Manufacturer Link; ComponentLink1URL: http://www.onsemi.com/site/products/taxonomy/0,4438,503,00.html; ComponentLink2Description: Datasheet; ComponentLink2URL: http://www.onsemi.com/pub/Collateral/UC3842A-D.PDF
footprint DIP8 (DIP; 8 Leads; Row Spacing 7.62 mm; Pitch 2.54 mm)
pins: 1 CMPEN (out), 2 VFB (in), 3 ISEN (in), 4 RT/CT, 5 GND (power), 6 OUT (out), 7 VCC (power), 8 VREF (out)

## ULN2003
designator U?
七达林顿阵列; Published: 8-Jun-2000; LatestRevisionDate: 13-Apr-2006; LatestRevisionNote: IPC-7351 Footprint Added.; DatasheetVersion: Sep-1998; PackageVersion: May-1998; PackageReference: SO16; Publisher: Altium Limited; PackageDescription: 16-Pin Small Outline Integrated Circuit 1.27 mm Pitch; Code_IPC: SOIC127P600-16; ComponentLink1Description: Manufacturer Link; ComponentLink1URL: http://www.st.com/; ComponentLink2Description: Datasheet; ComponentLink2URL: http://www.st.com/stonline/products/literature/ds/5279/uln2001.pdf
footprint DIP16
footprint SOP16
pins: 1 IN1 (in), 2 IN2 (in), 3 IN3 (in), 4 IN4 (in), 5 IN5 (in), 6 IN6 (in), 7 IN7 (in), 8 GND (power), 9 VCC (power), 10 OUT7, 11 OUT6, 12 OUT5, 13 OUT4, 14 OUT3, 15 OUT2, 16 OUT1

## ULN2004
designator U?
七达林顿阵列; Published: 8-Jun-2000; LatestRevisionDate: 06-Jun-2005; LatestRevisionNote: Stylized 3D Model Added.; DatasheetVersion: Sep-1998; PackageVersion: Apr-1996; PackageReference: DIP16; Publisher: Altium Limited; PackageDescription: DIP; 16 Leads; Row Spacing 7.62 mm; Pitch 2.54 mm; ComponentLink1Description: Manufacturer Link; ComponentLink1URL: http://www.st.com/; ComponentLink2Description: Datasheet; ComponentLink2URL: http://www.st.com/stonline/products/literature/ds/5279/uln2001.pdf
footprint DIP16
pins: 1 IN1 (in), 2 IN2 (in), 3 IN3 (in), 4 IN4 (in), 5 IN5 (in), 6 IN6 (in), 7 IN7 (in), 8 GND (power), 9 VCC (power), 10 OUT7 (oc), 11 OUT6 (oc), 12 OUT5 (oc), 13 OUT4 (oc), 14 OUT3 (oc), 15 OUT2 (oc), 16 OUT1 (oc)

## ULN2803
designator U?
八达林顿阵列; Published: 8-Jun-2000; LatestRevisionDate: 06-Jun-2005; LatestRevisionNote: Stylized 3D Model Added.; DatasheetVersion: Sep-1997; PackageReference: DIP18; Publisher: Altium Limited; PackageDescription: DIP; 18 Leads; Row Spacing 7.62 mm; Pitch 2.54 mm; ComponentLink1Description: Manufacturer Link; ComponentLink1URL: http://www.st.com/; ComponentLink2Description: Datasheet; ComponentLink2URL: http://www.st.com/stonline/products/literature/ds/1536/uln2801a.pdf
footprint DIP18
pins: 1 IN1 (in), 2 IN2 (in), 3 IN3 (in), 4 IN4 (in), 5 IN5 (in), 6 IN6 (in), 7 IN7 (in), 8 IN8 (in), 9 GND (power), 10 VCC (power), 11 OUT8 (oc), 12 OUT7 (oc), 13 OUT6 (oc), 14 OUT5 (oc), 15 OUT4 (oc), 16 OUT3 (oc), 17 OUT2 (oc), 18 OUT1 (oc)

## W25Q16BV
designator U?
2M×8 SPI总线串行EEPROM
footprint SOP8
pins: 1 ~{CS} (in), 2 DO(IO1) (io), 3 ~{WP}(IO2) (io), 4 GND (power), 5 DI(IO0) (io), 6 CLK (in), 7 ~{HOLD}(IO3) (io), 8 VCC (power)